# Altium integrated library HDMI-Connector.IntLib: 1 symbol
Pins are listed as number, name and electrical type; pins without a type are passive.

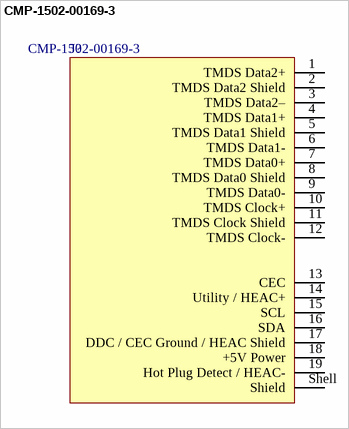
[diagram p0: symbol CMP-1502-00169-3]

## CMP-1502-00169-3
designator J?
HDMI 19PIN CONNECTOR; NexarPartId: 18818285; Contact Resistance: 30mΩ; Current Rating: 500mA; Gender: Receptacle; Insulation Resistance: 10MΩ; Number of Contacts: 19; Body Material: Plastic; Voltage Rating: 40V; Connector Type: HDMI; REACH SVHC: Unknown; Length: 12.15mm; Orientation: Horizontal; Packaging: Tape and Reel; Number of Pins: 19; Min Operating Temperature: -25°C; Termination: SMD/SMT; Height: 5.55mm; Features: Shielded; Number of Positions: 19; Width: 15mm; Mount: Horizontal, Surface Mount; Color: Black; Contact Material: Bronze, Gold; RoHS: Compliant; Max Operating Temperature: 85°C; Supplier 1: Mouser; Supplier Part Number 1: 538-208658-1051; Supplier 2: Mouser; Supplier Part Number 2: 710-685119134923
footprint 685119134923 (HDMI SMT Horizontal)
pins: 1 TMDS Data2+, 2 TMDS Data2 Shield, 3 TMDS Data2–, 4 TMDS Data1+, 5 TMDS Data1 Shield, 6 TMDS Data1-, 7 TMDS Data0+, 8 TMDS Data0 Shield, 9 TMDS Data0-, 10 TMDS Clock+, 11 TMDS Clock Shield, 12 TMDS Clock-, 13 CEC, 14 Utility / HEAC+, 15 SCL, 16 SDA, 17 DDC / CEC Ground / HEAC Shield, 18 +5V Power, 19 Hot Plug Detect / HEAC-, Shell Shield